# EAGLE library part 55917-30 (library con-molex-minifit)
DIP connector 2mm 30 way
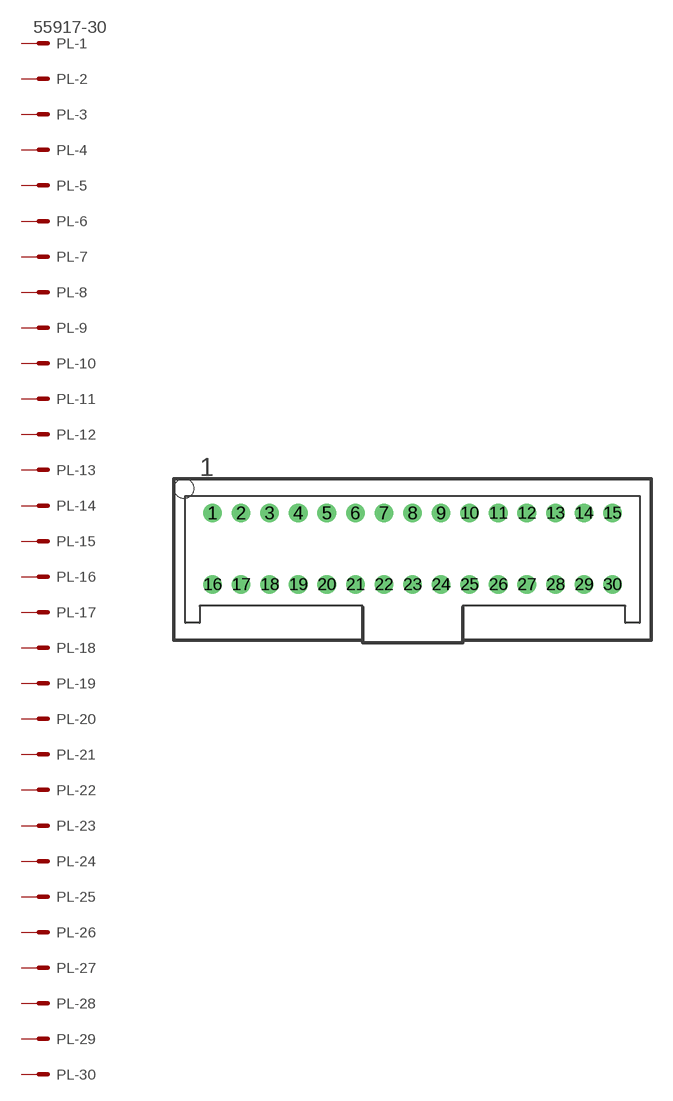
[diagram p21: symbol with the pads of 55917-30; footprint 55917-30]

Designator prefix PL; gates -1=MV -2=M -3=M -4=M -5=M -6=M -7=M -8=M -9=M -10=M -11=M -12=M -13=M -14=M -15=M -16=M -17=M -18=M -19=M -20=M -21=M -22=M -23=M -24=M -25=M -26=M -27=M -28=M -29=M -30=M

## 55917-30  [55917-30]
1  -1:S  pas
2  -2:S  pas
3  -3:S  pas
4  -4:S  pas
5  -5:S  pas
6  -6:S  pas
7  -7:S  pas
8  -8:S  pas
9  -9:S  pas
10  -10:S  pas
11  -11:S  pas
12  -12:S  pas
13  -13:S  pas
14  -14:S  pas
15  -15:S  pas
16  -16:S  pas
17  -17:S  pas
18  -18:S  pas
19  -19:S  pas
20  -20:S  pas
21  -21:S  pas
22  -22:S  pas
23  -23:S  pas
24  -24:S  pas
25  -25:S  pas
26  -26:S  pas
27  -27:S  pas
28  -28:S  pas
29  -29:S  pas
30  -30:S  pas

## Footprint 55917-30 (pad centres in mm)
DIP connector 2mm 30 way
drill 0.8 round: 1 -14,2.5; 2 -12,2.5; 3 -10,2.5; 4 -8,2.5; 5 -6,2.5; 6 -4,2.5; 7 -2,2.5; 8 0,2.5; 9 2,2.5; 10 4,2.5; 11 6,2.5; 12 8,2.5; 13 10,2.5; 14 12,2.5; 15 14,2.5; 16 -14,-2.5; 17 -12,-2.5; 18 -10,-2.5; 19 -8,-2.5; 20 -6,-2.5; 21 -4,-2.5; 22 -2,-2.5; 23 0,-2.5; 24 2,-2.5; 25 4,-2.5; 26 6,-2.5; 27 8,-2.5; 28 10,-2.5; 29 12,-2.5; 30 14,-2.5
hole 1.35 at -16,4.2